# EAGLE library part NHD-C0216CIZ-FN-FBW-3V (library Magister-Libraries)
LCD Character Display Modules & Accessories
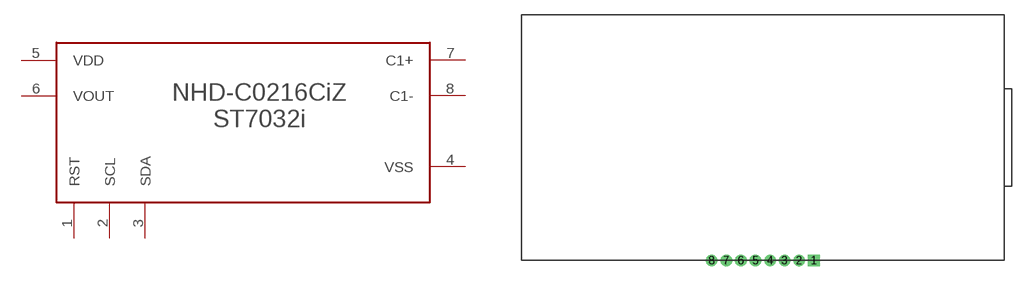
[diagram p8: symbol with the pads of NHD-C0216CIZ-FN-FBW-3V; footprint NHD-C0216CIZ-FN-FBW-3V]

Designator prefix -

## NHD-C0216CIZ-FN-FBW-3V (CONTROLLER: ST7032i-oD; COUNT_LINE: 16x2; DISPLAY_MODE: Transflective; INTERFACE: I2C; MANUFACTURER: Newhaven Display; VSUPPLY: 3v; VSUPPLY_MAX: 3.3v)  [NHD-C0216CIZ-FN-FBW-3V]
1  RST
2  SCL
3  SDA
4  VSS
5  VDD
6  VOUT
7  C1+
8  C1-

## Footprint NHD-C0216CIZ-FN-FBW-3V (pad centres in mm)
LCD Character Display Modules & Accessories
drill 0.7 square: 1 30.1,-25.3
drill 0.7: 2 28.6,-25.3; 3 27.1,-25.3; 4 25.6,-25.3; 5 24.1,-25.3; 6 22.6,-25.3; 7 21.1,-25.3; 8 19.6,-25.3